# Altium footprint library RES-DIP-2W.PcbLib: 1 footprints
Each footprint in its own frame and in the unit in brackets; x right, y up, seen from the top. Pads: shape width x height; smd on the part's side, far side on the other; paste and mask are expansions set on the pad; w line width, h text height; cw(c..) or ccw(c..) is an arc to the next point about the centre after c.
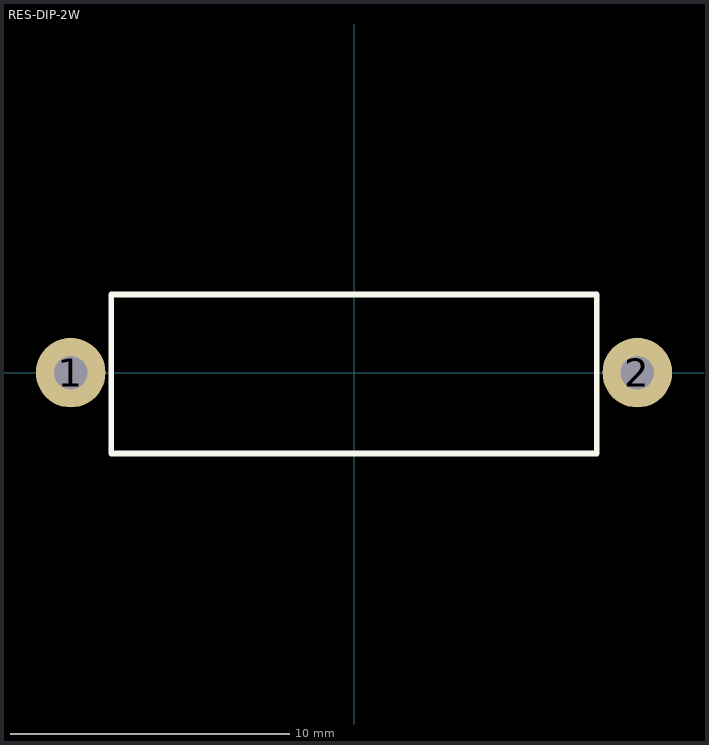
[diagram p0: the footprint, top view; thin cyan lines are the x and y axes]

## RES-DIP-2W [mm] "RESISTOR 2 WATT, AXIAL0.8"
height 5.5
pads (2):
  round 2.5 hole 1.2: 1(-10.16,0) 2(10.16,0)
Top Overlay:
  lines w0.2: -8.7,-2.9 8.7,-2.9 8.7,2.8 -8.7,2.8 -8.7,-2.9
3D body "User Library-RES-2W.STEP": height 5.5, standoff -3, extent -10.51,-2.8 10.51,2.7